# Altium schematic symbol library LED-Driver.SchLib: 41 symbols
Pins are listed as number, name and electrical type; pins without a type are passive.

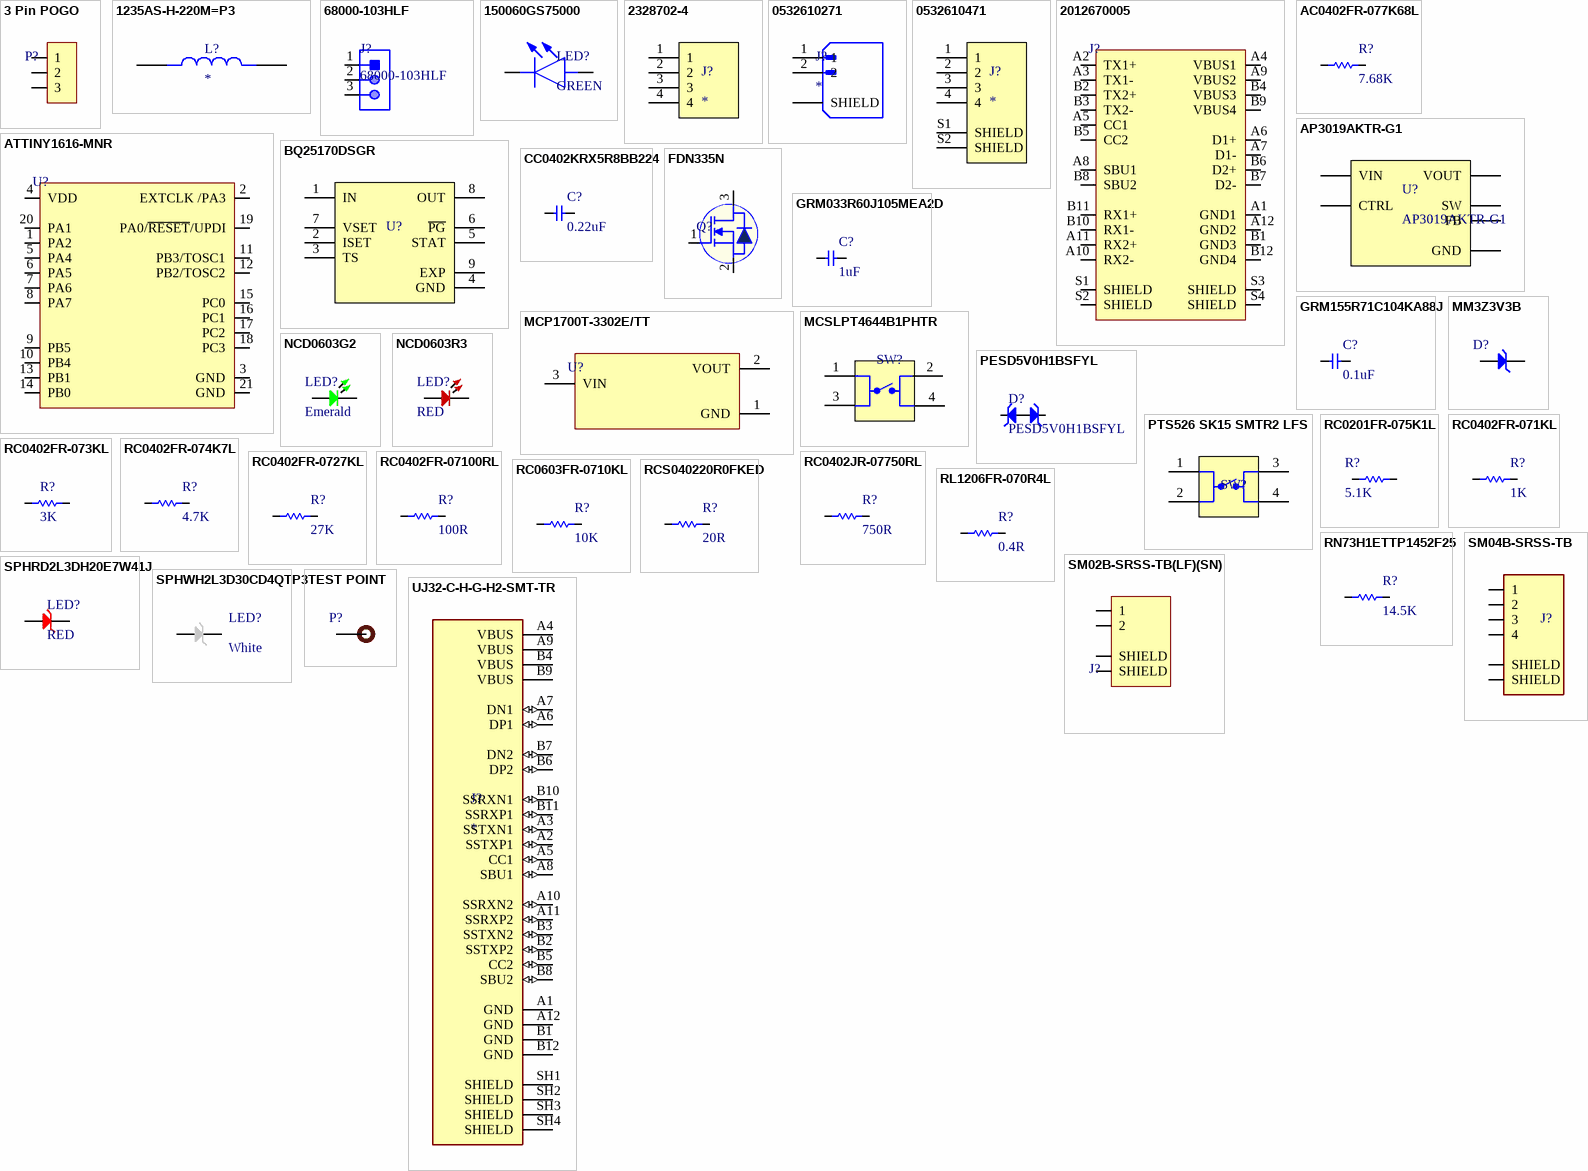
[diagram p0: symbols 3 Pin POGO to UJ32-C-H-G-H2-SMT-TR]

## 3 Pin POGO
designator P?
3 Pin POGO
footprint 3 Pin POGO
pins: 1, 2, 3

## 1235AS-H-220M=P3
designator L?
Inductor Power Shielded Wirewound 22uH 20% 100KHz Ferrite 1A 0.306Ohm DCR 1818 T/R; Manufacturer: Murata Electronics; Manufacturer Part Number: 1235AS-H-220M=P3; Package: None; Digikey Part Number: 490-14209-6-ND; ComponentLink1Description: Digikey Link; ComponentLink1URL: https://www.digikey.com/en/products/detail/murata-electronics/1235AS-H-220M-P3/6205726; Item Type: Inductor
footprint IND_1235AS-H-220M=P3
pins: 1, 2

## 68000-103HLF
designator J?
CONN HEADER VERT 3POS 2.54MM; Item Type: Male Header; Number of Positions: 3; Current Rating: 3A; Insulation Resistance: 5GR; Voltage Rating: 1.5kV; Contact Post Length: 2.41mm; LCSC Part Number: C168677; ComponentLink1Description: LCSC; Supplier: Avnet; Supplier Part Number: 88K1775; RoHS: No; Category: Headers and Wire Housings; Stock: 2805; Pricing: 1=0.395, 10=0.31, 25=0.29, 50=0.27, 100=0.25 (USD); Contact Plating: Gold,GXT; Contact Material: Bronze; Housing Material: Thermoplastic; Housing Color: Black; Min Operating Temperature: -65°C; Max Operating Temperature: 125°C; Number of Rows: 1; Termination: Through Hole; Packaging: Bulk; Number of Contacts: 3; Contact Gender: Male; Orientation: Straight; Max Voltage Rating (AC): 1.5kV; Package Quantity: 100; Series: 68000; Length: 7.62mm; Pitch: 2.54mm; Contact Mating Length: 5.84mm; Depth: 2.41mm; Radiation Hardening: No; Flammability Rating: UL94 V-0; Reach SVHC Compliant: No; ComponentLink2URL: https://datasheet.ciiva.com/46392/1914865-46392021.pdf?src-supplier=Element14; ComponentLink2Description: https://datasheet.ciiva.com/46392/1914865-46392021.pdf?src-supplier=Element14; Digikey Part Number: 609-3461-ND; ComponentLink3Description: Digikey Link; ComponentLink3URL: https://www.digikey.com/en/products/detail/amphenol-cs-fci/68000-103HLF/2023309?s=N4IgTCBcDaIGwA4AMKC0BGJBmAEgGQDEQBdAXyA; Manufacturer Part Number: 68000-103HLF
footprint HDR1X3_ (Connector; Header; 3 Position)
pins: 1, 2, 3

## 150060GS75000
designator LED?, comment GREEN
Green 520nm LED Indication - Discrete 3.2V 0603 (1608 Metric); Manufacturer: Würth Elektronik; Manufacturer Part Number: 150060GS75000; Supplier Part Number: 732-4971-6-ND; Item Type: LED; ComponentLink1Description: Digikey Link; ComponentLink1URL: https://www.digikey.com/en/products/detail/w%C3%BCrth-elektronik/150060GS75000/4489898; Package: 0603; Digikey Part Number: 732-4971-6-ND
footprint 150060GS75000
pins: 1, 2

## 2328702-4
designator J?
4 Position FPC Connector Contacts, Top and Bottom 0.020 (0.50mm) Surface Mount, Right Angle; MF: TE Connectivity AMP Connectors; MP: 2328702-4; Package: None; Price: None; Check_prices: https://www.snapeda.com/parts/2328702-4/TE+Connectivity/view-part/?ref=eda; Value: *; SnapEDA_Link: https://www.snapeda.com/parts/2328702-4/TE+Connectivity/view-part/?ref=snap; Availability: In Stock; Purchase-URL: https://pricing.snapeda.com/search?q=2328702-4&ref=eda
footprint TE_2328702-4
pins: 1, 2, 3, 4

## 0532610271
designator J?
Picoblade Connector, 2 Circuit Single Row, Right Angle Surface Mount SMT PCB; Manufacturer: Molex; Manufacturer Part Number: 0532610271; Package: None; Item Type: Connector; Digikey Part Number: WM7620DKR-ND; ComponentLink1Description: Digikey Link; ComponentLink1URL: https://www.digikey.com/en/products/detail/molex/0532610271/699094
footprint MOLEX_0532610271
pins: 1, 2, S1 SHIELD, S2 SHIELD

## 0532610471
designator J?
Picoblade Connector, 4 Circuit Single Row, Right Angle Surface Mount SMT PCB; Manufacturer Part Number: 0532610471; Manufacturer: Molex; Value: *; SnapEDA_Link: https://www.snapeda.com/parts/0532610471/Molex/view-part/?ref=snap; Check_prices: https://www.snapeda.com/parts/0532610471/Molex/view-part/?ref=eda; Availability: In Stock; Price: None; Purchase-URL: https://pricing.snapeda.com/search/part/0532610471/?ref=eda; Package: None; Item Type: Connector; Digikey Part Number: WM7622DKR-ND; ComponentLink1Description: Digikey Link; ComponentLink1URL: https://www.digikey.com/en/products/detail/molex/0532610471/699096
footprint MOLEX_0532610471
pins: 1, 2, 3, 4, S1 SHIELD, S2 SHIELD

## 2012670005
designator J?
USB-C (USB TYPE-C) USB 3.2 Gen 2 (USB 3.1 Gen 2, Superspeed + (USB 3.1)) Receptacle Connector 24 Position Surface Mount, Right Angle; Through Hole; Manufacturer: Molex; Manufacturer Part Number: 2012670005; Item Type: USB C Connector; Supplier 1: RSComponents; RoHS: Yes; Category: Uncategorized; Stock 1: 1525; Pricing 1: 50=2.06600, 125=1.93000, 250=1.81600, 500=1.70800 (GBP); ComponentLink1URL: https://www.molex.com/pdm_docs/sd/2012670005_sd.pdf?src-supplier=Digi-Key; ComponentLink1Description: https://www.molex.com/pdm_docs/sd/2012670005_sd.pdf?src-supplier=Digi-Key; Supplier Part Number 1: 1768676P; ComponentLink2Description: Digikey Link; ComponentLink2URL: https://www.digikey.com/en/products/detail/molex/2012670005/7652772?s=N4IgTCBcDa4AwEYwDYDscMFYQF0C%2BQA; Digikey Part Number: 2012670005
footprint 2012670005
pins: A1 GND1 (power), A2 TX1+, A3 TX1-, A4 VBUS1 (power), A5 CC1, A6 D1+, A7 D1-, A8 SBU1, A9 VBUS2 (power), A10 RX2-, A11 RX2+, A12 GND2 (power), B1 GND3 (power), B2 TX2+, B3 TX2-, B4 VBUS3 (power), B5 CC2, B6 D2+, B7 D2-, B8 SBU2, B9 VBUS4 (power), B10 RX1-, B11 RX1+, B12 GND4 (power), S1 SHIELD (power), S2 SHIELD (power), S3 SHIELD (power), S4 SHIELD (power)

## AC0402FR-077K68L
designator R?, comment 7.68K
7.68 kOhms ±1% 0.063W, 1/16W Chip Resistor 0402 (1005 Metric) Automotive AEC-Q200, Moisture Resistant Thick Film; Manufacturer: YAGEO; Manufacturer Part Number: AC0402FR-077K68L; Digikey Part Number: YAG5688DKR-ND; Item Type: Resistor; Package: 0402; ComponentLink1Description: New link; ComponentLink1URL: *
footprint Res-0402
pins: 1, 2

## AP3019AKTR-G1
designator U?
LED Driver IC 1 Output DC DC Regulator Step-Up (Boost) PWM Dimming 550mA (Switch) SOT-23-6; Manufacturer: Diodes Incorporated; Manufacturer Part Number: AP3019AKTR-G1; ComponentLink1Description: Digikey Link; ComponentLink1URL: https://www.digikey.com/en/products/detail/diodes-incorporated/AP3019AKTR-G1/4470850?s=N4IgTCBcDaIIIAUDMAGAjATjgaQCoCUBaAcTRAF0BfIA; Supplier Part Number: AP3019AKTR-G1DIDKR-ND; Item Type: LED Driver; Package: SOT-23-6; Digikey Part Number: AP3019AKTR-G1DIDKR-ND
footprint AP3019AKTR-G1
pins: 1 SW, 2 GND, 3 FB, 4 CTRL, 5 VOUT, 6 VIN

## ATTINY1616-MNR
designator U?
AVR tinyAVR™ 1, Functional Safety (FuSa) Microcontroller IC 8-Bit 20MHz 16KB (16K x 8) FLASH 20-VQFN (3x3); Manufacturer: Microchip Tech; Manufacturer Part Number: ATTINY1616-MNR; Package: QFN-20-EP(3x3); Digikey Part Number: ATTINY1616-MNRDKR-ND; Item Type: IC; ComponentLink1URL: https://www.digikey.com/en/products/detail/microchip-technology/ATTINY1616-MNR/7354618?s=N4IgTCBcDaIIIBUEEkByBNAjANhwWgFlUAlEAXQF8g; ComponentLink1Description: Digikey Link
footprint 20-VQFN (3x3)
pins: 1 PA2, 2 EXTCLK /PA3, 3 GND, 4 VDD, 5 PA4, 6 PA5, 7 PA6, 8 PA7, 9 PB5, 10 PB4, 11 PB3/TOSC1, 12 PB2/TOSC2, 13 PB1, 14 PB0, 15 PC0, 16 PC1, 17 PC2, 18 PC3, 19 PA0/~{RESET}/UPDI, 20 PA1, 21 GND

## BQ25170DSGR
designator U?
Charger IC Multi-Chemistry 8-WSON (2x2); Manufacturer: Texas Instruments; Manufacturer Part Number: BQ25170DSGR; Item Type: BATTERY CHARGER; Digikey Part Number: 296-BQ25170DSGRDKR-ND; Package: 8-WFDFN Exposed Pad; ComponentLink1Description: Digikey Link; ComponentLink1URL: https://www.digikey.com/en/products/detail/texas-instruments/BQ25170DSGR/14124032
footprint BQ25170DSGR
pins: 1 IN, 2 ISET, 3 TS, 4 GND, 5 STAT, 6 ~{PG}, 7 VSET, 8 OUT, 9 EXP

## CC0402KRX5R8BB224
designator C?, comment 0.22uF
0.22 µF ±10% 25V Ceramic Capacitor X5R 0402 (1005 Metric); Manufacturer: YAGEO; Manufacturer Part Number: CC0402KRX5R8BB224; Digikey Part Number: 311-3341-6-ND; Item Type: Capacitor; Package: 0402; ComponentLink1Description: Digikey Link; ComponentLink1URL: https://www.digikey.com/en/products/detail/yageo/CC0402KRX5R8BB224/5883337?s=N4IgTCBcDaIMJwAwBZFgNICUAaBWTAHAEJFhjIgC6AvkA
footprint Cap-0402
pins: 1, 2

## FDN335N
designator Q?
SOT-23 MOSFETs ROHS; Manufacturer: onsemi; Manufacturer Part Number: FDN335N; Item Type: Mosfet; Package: SOT-23; Digikey Part Number: FDN335NDKR-ND; ComponentLink1Description: Digikey Link; ComponentLink1URL: https://www.digikey.com/en/products/detail/onsemi/FDN335N/965301
footprint SOT-23 (TRANS NPN 40V 0.6A SOT23)
pins: 1 G, 2 S, 3 D

## GRM033R60J105MEA2D
designator C?, comment 1uF
1 µF ±20% 6.3V Ceramic Capacitor X5R 0201 (0603 Metric); Manufacturer: Murata Electronics; Manufacturer Part Number: GRM033R60J105MEA2D; Digikey Part Number: 490-7229-6-ND; Item Type: Capacitor; Package: 0201; ComponentLink1Description: Digikey Link; ComponentLink1URL: https://www.digikey.com/en/products/detail/murata-electronics/GRM033R60J105MEA2D/4213369
footprint Cap-0402
pins: 1, 2

## GRM155R71C104KA88J
designator C?, comment 0.1uF
0.1 µF ±10% 16V Ceramic Capacitor X7R 0402 (1005 Metric); Manufacturer: Murata Electronics; Manufacturer Part Number: GRM155R71C104KA88J; Digikey Part Number: 490-6328-6-ND; Item Type: Capacitor; Package: 0402; ComponentLink1Description: Digikey Link; ComponentLink1URL: https://www.digikey.com/en/products/detail/murata-electronics/GRM155R71C104KA88J/2610892
footprint Cap-0402
pins: 1, 2

## MCP1700T-3302E/TT
designator U?
IC REG LDO 3.3V 0.25A SOT23-3; Manufacturer: Microchip; Manufacturer Part Number: MCP1700T-3302E/TT; Number of Outputs: 1; Min Input Voltage: 2.3V; Max Input Voltage: 6V; Dropout Voltage: 178mV; Output Current: 250mA; Max Power Dissipation: 369.6mW; Input Bias Current: 1.6uA; Polarity: Positive; Quiescent Current: 4uA; Accuracy: 2%; Output Type: Fixed; Supplier 1: Digi-Key; RoHS: Yes; Category: Voltage Regulators - Linear; Stock 1: 230029; Pricing 1: 1=0.50000, 25=0.42400, 100=0.37500 (USD); Mount: Surface Mount; Case/Package: SOT-23; Number of Pins: 3; Contact Plating: Tin,Matte; Min Operating Temperature: -40°C; Max Operating Temperature: 125°C; Nominal Output Voltage: 3.3V; Packaging: Tape and Reel; Output Voltage: 3.3V; Max Output Current: 250mA; Max Supply Voltage: 6V; Min Supply Voltage: 2.3V; Package Quantity: 3000; Min Output Voltage: 3.3V; Max Output Voltage: 3.3V; Termination: SMD/SMT; Output Voltage Accuracy: 2%; Nominal Supply Current: 4uA; Power Dissipation: 369.6mW; Supply Current: 4uA; Length: 2.9mm; Width: 1.3mm; Height: 0.95mm; Radiation Hardening: No; Reach SVHC Compliant: No SVHC; Lead Free: Lead Free; RoHS Compliant: Yes; ComponentLink1URL: https://datasheet.ciiva.com/5801/1784514-5801824.pdf?src-supplier=Farnell; ComponentLink1Description: https://datasheet.ciiva.com/5801/1784514-5801824.pdf?src-supplier=Farnell; ComponentLink2URL: https://datasheet.ciiva.com/2040/21826b-2040112.pdf?src-supplier=Digi-Key; ComponentLink2Description: https://datasheet.ciiva.com/2040/21826b-2040112.pdf?src-supplier=Digi-Key; ComponentLink3URL: https://datasheet.ciiva.com/7649/1784514-7649813.pdf?src-supplier=Element14; ComponentLink3Description: https://datasheet.ciiva.com/7649/1784514-7649813.pdf?src-supplier=Element14; ComponentLink4URL: https://datasheet.ciiva.com/22710/1784514-22710988.pdf?src-supplier=Element14; ComponentLink4Description: https://datasheet.ciiva.com/22710/1784514-22710988.pdf?src-supplier=Element14; ComponentLink5URL: https://datasheet.ciiva.com/14150/mcp1700-eng-tds-14150122.pdf?src-supplier=Distrelec; ComponentLink5Description: https://datasheet.ciiva.com/14150/mcp1700-eng-tds-14150122.pdf?src-supplier=Distrelec; ComponentLink6URL: https://datasheet.ciiva.com/8041/1784514-8041598.pdf?src-supplier=Element14; ComponentLink6Description: https://datasheet.ciiva.com/8041/1784514-8041598.pdf?src-supplier=Element14; ComponentLink7URL: https://datasheet.ciiva.com/3224/jp011779-3224133.pdf?src-supplier=Avnet; ComponentLink7Description: https://datasheet.ciiva.com/3224/jp011779-3224133.pdf?src-supplier=Avnet; ComponentLink8URL: https://datasheet.ciiva.com/16208/filehandler-aspxddocname-en011779-16208911.pdf?src-supplier=Future+Electronics; ComponentLink8Description: https://datasheet.ciiva.com/16208/filehandler-aspxddocname-en011779-16208911.pdf?src-supplier=Future+Electronics; ComponentLink9URL: https://datasheet.ciiva.com/15200/getdatasheetpartid-453599-15200229.pdf?src-supplier=Verical; ComponentLink9Description: https://datasheet.ciiva.com/15200/getdatasheetpartid-453599-15200229.pdf?src-supplier=Verical; ComponentLink10URL: https://datasheet.ciiva.com/2040/21826b-2040113.pdf?src-supplier=Digi-Key; ComponentLink10Description: https://datasheet.ciiva.com/2040/21826b-2040113.pdf?src-supplier=Digi-Key; ComponentLink11URL: https://datasheet.ciiva.com/2040/21826b-2040114.pdf?src-supplier=Digi-Key; ComponentLink11Description: https://datasheet.ciiva.com/2040/21826b-2040114.pdf?src-supplier=Digi-Key; ComponentLink12URL: https://datasheet.ciiva.com/29305/651414-da-01-en-ic-reg-ld-mcp1700t-3302e-tt-sot-23-3-mcp-29305258.pdf?src-supplier=Conrad; ComponentLink12Description: https://datasheet.ciiva.com/29305/651414-da-01-en-ic-reg-ld-mcp1700t-3302e-tt-sot-23-3-mcp-29305258.pdf?src-supplier=Conrad; Supplier Part Number 1: MCP1700T3302ETTCT-ND; Item Type: IC; Digikey Part Number: MCP1700T3302ETTDKR-ND
footprint SOT-23 (TRANS NPN 40V 0.6A SOT23)
pins: 1 GND, 2 VOUT, 3 VIN

## MCSLPT4644B1PHTR
designator SW?
Tactile Switch SPST-NO Top Actuated Surface Mount; Manufacturer: TE Connectivity ALCOSWITCH Switches; Manufacturer Part Number: MCSLPT4644B1PHTR; Digikey Part Number: 450-3383-6-ND; Item Type: Switch; ComponentLink1Description: Digikey Link; ComponentLink1URL: https://www.digikey.com/en/products/detail/te-connectivity-alcoswitch-switches/MCSLPT4644B1PHTR/9686564; Package: SMD
footprint MCSLPT4644B1PHTR
pins: 1, 2, 3, 4

## MM3Z3V3B
designator D?
DIODE ZENER 3.3V 200MW SOD323F; Manufacturer: ON Semiconductor / Fairchild; Manufacturer Part Number: MM3Z3V3B; Forward Voltage: 1V; Tolerance: 2%; Impedance: 89R; Max Reverse Leakage Current: 4.5uA; Test Current: 5mA; Element Configuration: Single; Supplier 1: Digi-Key; Stock 1: 473644; Pricing 1: 1=0.22, 10=0.18, 100=0.0956, 500=0.06288, 1000=0.04276 (USD); Mount: Surface Mount; Number of Pins: 2; Weight: 0.0276g; Min Operating Temperature: -65°C; Max Operating Temperature: 150°C; Packaging: Tape and Reel; Package Quantity: 1; Max Power Dissipation: 200mW; Zener Voltage: 3.3V; Voltage Tolerance: 2%; Power Dissipation: 200mW; Working Voltage: 3.3V; Peak Reverse Current: 4.5uA; Length: 1.3mm; Height: 1mm; Width: 1.7mm; Radiation Hardening: No; REACH SVHC: No SVHC; Lead Free: Lead Free; ComponentLink1URL: http://www.onsemi.com/pub/Collateral/MM3Z9V1B-D.pdf?src-supplier=Digi-Key; ComponentLink1Description: http://www.onsemi.com/pub/Collateral/MM3Z9V1B-D.pdf?src-supplier=Digi-Key; ComponentLink2URL: http://www.mouser.com/ds/2/149/MM3Z3V3B-187166.pdf?src-supplier=Mouser; ComponentLink2Description: http://www.mouser.com/ds/2/149/MM3Z3V3B-187166.pdf?src-supplier=Mouser; ComponentLink3URL: https://www.fairchildsemi.com/datasheets/MM/MM3Z9V1B.pdf?src-supplier=Avnet; ComponentLink3Description: https://www.fairchildsemi.com/datasheets/MM/MM3Z9V1B.pdf?src-supplier=Avnet; ComponentLink4URL: http://www.farnell.com/datasheets/1706525.pdf?src-supplier=Element14; ComponentLink4Description: http://www.farnell.com/datasheets/1706525.pdf?src-supplier=Element14; Supplier Part Number 1: MM3Z3V3BCT-ND; Digikey Part Number: MM3Z3V3BDKR-ND; Item Type: Diode; ComponentLink5Description: Digikey Link; ComponentLink5URL: https://www.digikey.com/en/products/detail/onsemi/MM3Z3V3B/1626765?s=N4IgTCBcDaILJwMwC1EDVECEQF0C%2BQA
footprint SOD323F
pins: 1 A, 2 K

## NCD0603G2
designator LED?, comment Emerald
Emerald 0603 Light Emitting Diodes (LED) ROHS; Manufacturer: Foshan NationStar Optoelectronics; Manufacturer Part Number: NCD0603G2; Package: 0603; LCSC Part Number: C87326; Item Type: LED; ComponentLink1Description: LCSC; ComponentLink1URL: https://www.lcsc.com/product-detail/Light-Emitting-Diodes-LED_Foshan-NationStar-Optoelectronics-NCD0603G2_C87326.html
footprint LED-0603
pins: 1, 2

## NCD0603R3
designator LED?, comment RED
RED LED 0603 Light Emitting Diodes; Manufacturer: Foshan NationStar Optoelectronics; Manufacturer Part Number: NCD0603R3; Package: 0603; Item Type: LED; LCSC Part Number: C3151730; ComponentLink1Description: LCSC; ComponentLink1URL: https://www.lcsc.com/product-detail/Light-Emitting-Diodes-LED_Foshan-NationStar-Optoelectronics-NCD0603R3_C3151730.html
footprint LED-0603
pins: 1, 2

## PESD5V0H1BSFYL
designator D?
5V Clamp 7A (8/20µs) Ipp Tvs Diode Surface Mount DSN0603-2; Manufacturer: Nexperia USA Inc.; Manufacturer Part Number: PESD5V0H1BSFYL; Digikey Part Number: 1727-2675-6-ND; Item Type: TVS Diode; Package: 0603; ComponentLink1Description: Digikey Link; ComponentLink1URL: https://www.digikey.com/en/products/detail/nexperia-usa-inc/PESD5V0H1BSFYL/5981341?s=N4IgTCBcDaIAoFEDKARArANQAwAkCMAQkgGICaAMiALoC%2BQA
footprint DSN0603-2
pins: 1, 2

## PTS526 SK15 SMTR2 LFS
designator SW?
Tactile Switch SPST-NO Top Actuated Surface Mount; Manufacturer: C&K; Manufacturer Part Number: PTS526 SK15 SMTR2 LFS; Digikey Part Number: CKN12221-6-ND; Item Type: Tactile Switch; Package: *; ComponentLink1Description: Digikey Link; ComponentLink1URL: https://www.digikey.com/en/products/detail/c-k/PTS526-SK15-SMTR2-LFS/10056626
footprint PTS525SM15SMTR2LFS
pins: 1, 2, 3, 4

## RC0201FR-075K1L
designator R?, comment 5.1K
RES 5.1K OHM 1% 1/20W 0201; Manufacturer: Yageo; Manufacturer Part Number: RC0201FR-075K1L; Power Rating: 50mW; Value: 5.1kR; Voltage Rating: 25V; Temperature Coefficient: 200ppm/°C; Item Type: Resistor; Supplier: Future Electronics; Supplier Part Number: 9072847; RoHS: Yes; Category: Chip SMD Resistors; Stock: 280000; Pricing: 10000=0.0014, 40000=0.0013, 200000=0.0013, 400000=0.0012, 1250000=0.0011 (USD); Case/Package: 0201; Case Code (Imperial): 0201; Case Code (Metric): 0603; Min Operating Temperature: -55°C; Max Operating Temperature: 125°C; Packaging: Tape and Reel; Tolerance: 1%; Termination: SMD/SMT; Number of Terminations: 2; Max Power Dissipation: 50mW; Features: Moisture Resistant; Series: RC; Length: 0.6mm; Width: 0.3mm; Height: 0.23mm; Lead Free: Lead Free; RoHS Compliant: Yes; ComponentLink1URL: http://www.mouser.com/ds/2/447/RC0201-559633.pdf?src-supplier=Mouser; ComponentLink1Description: http://www.mouser.com/ds/2/447/RC0201-559633.pdf?src-supplier=Mouser; ComponentLink2URL: https://datasheet.octopart.com/RC0201FR-075K1L-Yageo-datasheet-164759695.pdf?src-supplier=Future+Electronics; ComponentLink2Description: https://datasheet.octopart.com/RC0201FR-075K1L-Yageo-datasheet-164759695.pdf?src-supplier=Future+Electronics; ComponentLink3URL: http://www.yageo.com/documents/recent/PYu-RC_Group_51_RoHS_L_10.pdf?src-supplier=Digi-Key; ComponentLink3Description: http://www.yageo.com/documents/recent/PYu-RC_Group_51_RoHS_L_10.pdf?src-supplier=Digi-Key; LCSC Part Number: C274341; Digikey Part Number: YAG2741DKR-ND
footprint Res-0201
pins: 1, 2

## RC0402FR-071KL
designator R?, comment 1K
1 kOhms ±1% 0.063W, 1/16W Chip Resistor 0402 (1005 Metric) Moisture Resistant Thick Film; Manufacturer: YAGEO; Manufacturer Part Number: RC0402FR-071KL; Digikey Part Number: 311-1.00KLRDKR-ND; Item Type: Resistor; Package: 0402; ComponentLink1Description: Digikey Link; ComponentLink1URL: https://www.digikey.com/en/products/detail/yageo/RC0402FR-071KL/726513
footprint Res-0402
pins: 1, 2

## RC0402FR-073KL
designator R?, comment 3K
3 kOhms ±1% 0.063W, 1/16W Chip Resistor 0402 (1005 Metric) Moisture Resistant Thick Film; Manufacturer: YAGEO; Manufacturer Part Number: RC0402FR-073KL; Digikey Part Number: 311-3KLRCT-ND; Item Type: Resistor; Package: 0402; ComponentLink1Description: Digikey Link; ComponentLink1URL: https://www.digikey.com/en/products/detail/yageo/RC0402FR-073KL/2827586
footprint Res-0402
pins: 1, 2

## RC0402FR-074K7L
designator R?, comment 4.7K
4.7 kOhms ±1% 0.063W, 1/16W Chip Resistor 0402 (1005 Metric) Moisture Resistant Thick Film; Manufacturer: YAGEO; Manufacturer Part Number: RC0402FR-074K7L; Digikey Part Number: 311-4.7KLRDKR-ND; Item Type: Resistor; Package: 0402; ComponentLink1Description: Digikey Link; ComponentLink1URL: https://www.digikey.com/en/products/detail/yageo/RC0402FR-074K7L/2827563
footprint Res-0402
pins: 1, 2

## RC0402FR-0727KL
designator R?, comment 27K
27 kOhms ±1% 0.063W, 1/16W Chip Resistor 0402 (1005 Metric) Moisture Resistant Thick Film; Manufacturer: YAGEO; Manufacturer Part Number: RC0402FR-0727KL; ComponentLink1Description: New link; ComponentLink1URL: *; Digikey Part Number: 311-27.0KLRDKR-ND; Item Type: Resistor; Package: 0402
footprint Res-0402
pins: 1, 2

## RC0402FR-07100RL
designator R?, comment 100R
100 Ohms ±1% 0.063W, 1/16W Chip Resistor 0402 (1005 Metric) Moisture Resistant Thick Film; Manufacturer: YAGEO; Manufacturer Part Number: RC0402FR-07100RL; Digikey Part Number: 311-100LRDKR-ND; Item Type: Resistor; Package: 0402; ComponentLink1Description: Digikey Link; ComponentLink1URL: https://www.digikey.com/en/products/detail/yageo/RC0402FR-07100RL/726527
footprint Res-0402
pins: 1, 2

## RC0402JR-07750RL
designator R?, comment 750R
750 Ohms ±5% 0.063W, 1/16W Chip Resistor 0402 (1005 Metric) Moisture Resistant Thick Film; Manufacturer: YAGEO; Manufacturer Part Number: RC0402JR-07750RL; ComponentLink1Description: Digikey Link; ComponentLink1URL: https://www.lcsc.com/product-detail/Chip-Resistor-Surface-Mount_Vishay-Intertech-CRCW0201750RFKED_C2086853.html; Digikey Part Number: YAG3314DKR-ND; Item Type: Resistor; Package: 0402
footprint Res-0402
pins: 1, 2

## RC0603FR-0710KL
designator R?, comment 10K
10 kOhms ±1% 0.063W, 1/16W Chip Resistor 0402 (1005 Metric) Moisture Resistant Thick Film; Manufacturer: YAGEO; Manufacturer Part Number: RC0402FR-0710KL; Digikey Part Number: 311-10.0KLRDKR-ND; Item Type: Resistor; Package: 0402; ComponentLink1Description: Digikey Link; ComponentLink1URL: https://www.digikey.com/en/products/detail/yageo/RC0402FR-0710KL/726523
footprint Res-0402
pins: 1, 2

## RCS040220R0FKED
designator R?, comment 20R
20 Ohms ±1% 0.2W, 1/5W Chip Resistor 0402 (1005 Metric) Automotive AEC-Q200, Pulse Withstanding Thick Film; Manufacturer: Vishay Dale; Manufacturer Part Number: RCS040220R0FKED; Digikey Part Number: 541-RCS040220R0FKEDDKR-ND; Item Type: Resistor; Package: 0402; ComponentLink1Description: Digikey Link; ComponentLink1URL: https://www.digikey.com/en/products/detail/vishay-dale/RCS040220R0FKED/5867510
footprint RESC1005X40N
pins: 1, 2

## RL1206FR-070R4L
designator R?, comment 0.4R
400 mOhms ±1% 0.25W, 1/4W Chip Resistor 1206 (3216 Metric) Automotive AEC-Q200, Current Sense, Moisture Resistant Thick Film; Manufacturer: YAGEO; Manufacturer Part Number: RL1206FR-070R4L; Digikey Part Number: 311-.4LWDKR-ND; Item Type: Resistor; Package: 1206; ComponentLink1Description: Digikey Link; ComponentLink1URL: https://www.digikey.com/en/products/detail/yageo/RL1206FR-070R4L/3886028
footprint Res-1206
pins: 1, 2

## RN73H1ETTP1452F25
designator R?, comment 14.5K
14.5 kOhms ±1% 0.063W, 1/16W Chip Resistor 0402 (1005 Metric) Automotive AEC-Q200, Moisture Resistant Metal Film; Manufacturer: KOA Speer Electronics, Inc.; Manufacturer Part Number: RN73H1ETTP1452F25; ComponentLink1Description: Digikey Link; ComponentLink1URL: https://www.digikey.com/en/products/detail/koa-speer-electronics-inc/RN73H1ETTP1452F25/9913757; Digikey Part Number: 2019-RN73H1ETTP1452F25DKR-ND; Item Type: Resistor; Package: 0402
footprint Res-0402
pins: 1, 2

## SM02B-SRSS-TB(LF)(SN)
designator J?
Connector Header Surface Mount, Right Angle 2 position 0.039 _1.00mm_; Manufacturer Part NUmber: SM02B-SRSS-TB_LF__SN_; Manufacturer: JST Sales; SnapEDA_Link: https://www.snapeda.com/parts/SM02B-SRSS-TB%28LF%29%28SN%29/JST%20Sales%20America%20Inc./view-part/447499/?ref=snap; Price: None; Value: *; Availability: Unavailable; Package: None; Digikey Part Number: 455-SM02B-SRSS-TBDKR-ND; ComponentLink1Description: Digikey Link; ComponentLink1URL: https://www.digikey.com/en/products/detail/jst-sales-america-inc/SM02B-SRSS-TB/926708?s=N4IgTCBcDaIMoFkAMYBCBaOAlOd0BVUQBdAXyA
footprint SM02B-SRSS-TB(LF)(SN)
pins: 1, 2, 3 SHIELD, 4 SHIELD

## SM04B-SRSS-TB
designator J?
Connector Header Surface Mount, Right Angle 4 position 0.039" (1.00mm); Manufacturer: JST Sales America Inc.; Manufacturer Part Number: SM04B-SRSS-TB; Digikey Part Number: 455-SM04B-SRSS-TBDKR-ND; Item Type: Connector; Package: SMD; ComponentLink1Description: Digikey Link; ComponentLink1URL: https://www.digikey.com/en/products/detail/jst-sales-america-inc/SM04B-SRSS-TB/926710
footprint JST_SM04B-SRSS-TB(LF)(SN)
pins: 1, 2, 3, 4, S1 SHIELD, S2 SHIELD

## SPHRD2L3DH20E7W41J
designator LED?, comment RED
LED Lighting Color LH351H Red 660nm (650nm ~ 670nm); Manufacturer: Samsung Semiconductor, Inc.; Manufacturer Part Number: SPHRD2L3DH20E7W41J; Digikey Part Number: 1510-SPHRD2L3DH20E7W41JDKR-ND; Item Type: LED; Package: 0.138" L x 0.138" W (3.50mm x 3.50mm); ComponentLink1Description: Digikey Link; ComponentLink1URL: https://www.digikey.com/en/products/detail/samsung-semiconductor-inc/SPHRD2L3DH20E7W41J/13617167?s=N4IgTCBcDaIMoAUASAlAImAMgZjUsADAKIDsA6gCwCMAUiALoC%2BQA
footprint LED_SPHRD2L3DH20E7W41J_SAM
pins: 1 A, 2 K

## SPHWH2L3D30CD4QTP3
designator LED?, comment White
LED Lighting LH351B White, Cool 5700K 2.8V 350mA 120° 1414 (3535 Metric); Manufacturer: Samsung Semiconductor, Inc.; Manufacturer Part Number: SPHWH2L3D30CD4QTP3; Digikey Part Number: 1510-2143-6-ND; Item Type: LED; Package: 0.138" L x 0.138" W (3.50mm x 3.50mm); ComponentLink1Description: Digikey Link; ComponentLink1URL: https://www.digikey.com/en/products/detail/samsung-semiconductor-inc/SPHWH2L3D30CD4QTP3/6569391
footprint LED_SPHRD2L3DH20E7W41J_SAM
pins: 1 A, 2 K

## TEST POINT
designator P?  (no BOM)
Test Point ON; Item Type: TEST POINT
footprint Test-point
pins: 1

## UJ32-C-H-G-H2-SMT-TR
designator J?
Type C, USB 3.2 Gen 2x2, 20 Gbps, 20 Vac, 5 A, Right Angle, Gold Flash, Surface Mount, Black Insulator, USB Receptacle; MF: CUI Devices; MP: UJ32-C-H-G-H2-SMT-TR; SnapEDA_Link: https://www.snapeda.com/parts/UJ32-C-H-G-H2-SMT-TR/CUI+Devices/view-part/?ref=snap; Package: None; Value: *; CUI_purchase_URL: https://www.cuidevices.com/product/interconnect/connectors/usb-connectors/uj32-c-h-g-h2-smt-tr?utm_source=snapeda.com&utm_medium=referral&utm_campaign=snapedaBOM; Check_prices: https://www.snapeda.com/parts/UJ32-C-H-G-H2-SMT-TR/CUI+Devices/view-part/?ref=eda
footprint CUI_UJ32-C-H-G-H2-SMT-TR
pins: A1 GND (power), A2 SSTXP1 (io), A3 SSTXN1 (io), A4 VBUS (power), A5 CC1 (io), A6 DP1 (io), A7 DN1 (io), A8 SBU1 (io), A9 VBUS (power), A10 SSRXN2 (io), A11 SSRXP2 (io), A12 GND (power), B1 GND (power), B2 SSTXP2 (io), B3 SSTXN2 (io), B4 VBUS (power), B5 CC2 (io), B6 DP2 (io), B7 DN2 (io), B8 SBU2 (io), B9 VBUS (power), B10 SSRXN1 (io), B11 SSRXP1 (io), B12 GND (power), SH1 SHIELD, SH2 SHIELD, SH3 SHIELD, SH4 SHIELD

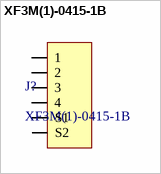
[diagram p1: symbol XF3M(1)-0415-1B]

## XF3M(1)-0415-1B
designator J?
4 Position FFC, FPC Connector Contacts, Top and Bottom 0.039" (1.00mm) Surface Mount, Right Angle; Manufacturer: Omron Electronics Inc-EMC Div; Item Type: FPC-1mm; Manufacturer Part Number: XF3M(1)-0415-1B; Digikey Part Number: OR1210CT-ND; ComponentLink1Description: Digikey Link; ComponentLink1URL: https://www.digikey.com/en/products/detail/omron-electronics-inc-emc-div/XF3M-1-0415-1B/4695932; Package: 1mm FPC
footprint XF3M(1)-0415-1B
pins: 1, 2, 3, 4, S1, S2